# Altium footprint library A000066.PcbLib: 1 footprints
Each footprint in its own frame and in the unit in brackets; x right, y up, seen from the top. Pads: shape width x height; smd on the part's side, far side on the other; paste and mask are expansions set on the pad; w line width, h text height; cw(c..) or ccw(c..) is an arc to the next point about the centre after c.
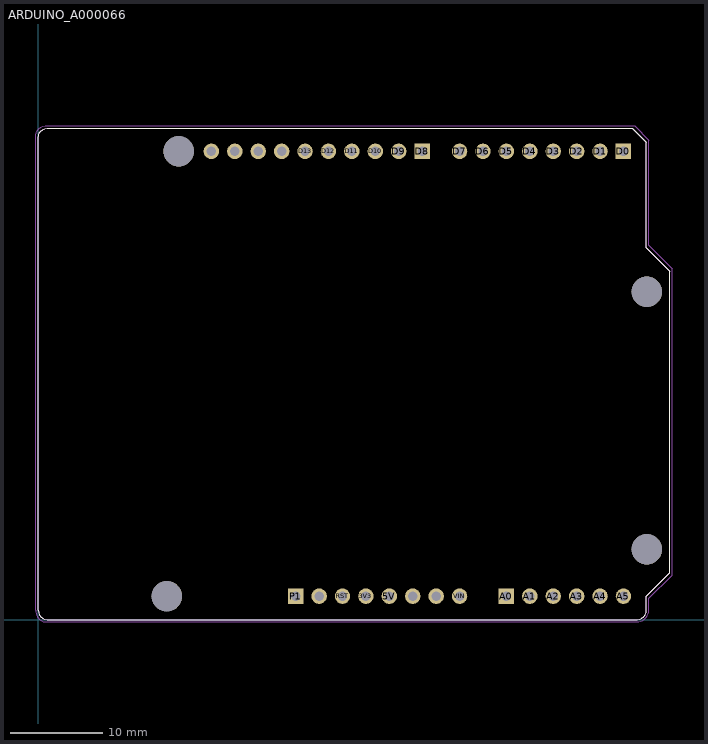
[diagram p0: the footprint, top view; thin cyan lines are the x and y axes]

## ARDUINO_A000066 [mil]
pads (36):
  round 66 hole 40: 3V3(1400,100) 5V(1500,100) A1(2100,100) A2(2200,100) A3(2300,100) A4(2400,100) A4(SDA)(840,2000) A5(2500,100) A5(SCL)(740,2000) AREF(940,2000) D1(2400,2000) D2(2300,2000) D3(2200,2000) D4(2100,2000) D5(2000,2000) D6(1900,2000) D7(1800,2000) D9(1540,2000) D10(1440,2000) D11(1340,2000) D12(1240,2000) D13(1140,2000) GND_1(1700,100) GND_2(1600,100) GND_3(1040,2000) IOREF(1200,100) RST(1300,100) VIN(1800,100)
  rect 66x66 hole 40: A0(2000,100) D0(2500,2000) D8(1640,2000) P1(1100,100)
  round 129.92 hole 129.92 unplated: ""(550,100) ""(600,2000) ""(2600,300) ""(2600,1400)
Top Overlay:
  lines w5: 0,39.1 0,2058.39 1.67,2069.21 5,2078.38 11.66,2086.71 19.99,2092.54 29.16,2096.7 39.15,2098.37 2538.27,2098.37 2598.25,2038.39 2598.25,1588.55 2698.21,1488.59 2698.21,199.87 2598.25,99.91 2598.25,39.1 2596.58,29.1 2593.25,19.94 2586.59,11.61 2578.26,4.94 2569.09,1.61 2559.09,-0.05 39.15,-0.05 29.16,1.61 19.99,4.94 11.66,11.61 5,19.94 1.67,29.1 0,39.1
Mechanical 13:
  lines w5: 0,39.1 0,2058.39 1.67,2069.21 5,2078.38 11.66,2086.71 19.99,2092.54 29.16,2096.7 39.15,2098.37 2538.27,2098.37 2598.25,2038.39 2598.25,1588.55 2698.21,1488.59 2698.21,199.87 2598.25,99.91 2598.25,39.1 2596.58,29.1 2593.25,19.94 2586.59,11.61 2578.26,4.94 2569.09,1.61 2559.09,-0.05 39.15,-0.05 29.16,1.61 19.99,4.94 11.66,11.61 5,19.94 1.67,29.1 0,39.1
Mechanical 15:
  lines w1.97: -9.84,39.1 -9.84,39.37 -9.84,2068.23 -8.18,2079.06 -4.84,2088.22 1.82,2096.55 10.15,2102.38 19.31,2106.55 29.31,2108.21 2548.11,2108.21 2608.09,2048.23 2608.09,1598.39 2708.06,1498.43 2708.06,190.03 2608.09,90.07 2608.09,39.1 ; -9.83,39.5 ccw(c36.7,36.25) 29.4,-9.82 ; 29.31,-9.9 2559.09,-9.9 ; 2558.61,-9.86 ccw(c2556.81,41.62) 2608.25,38.92
3D body "step_temp.STEP": height 467.33, standoff -117.72, extent -1605.52,-1050 1350,1050